# EAGLE library part XLATOR_4B_EP (library !GPLIB_ACTIVE)
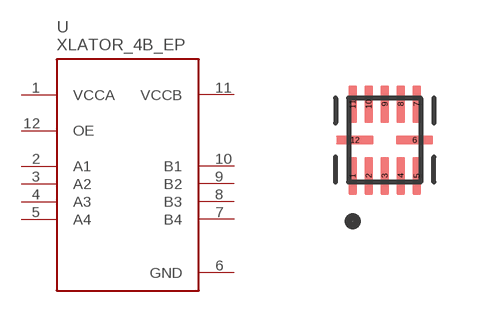
[diagram p109: symbol with the pads of QFN-12(1.7X2); footprint QFN-12(1.7X2)]

Designator prefix U

## XLATOR_4B_EP_UM3204QT  [QFN-12(1.7X2)]
1  VCCA  pwr
2  A1
3  A2
4  A3
5  A4
6  GND  pwr
7  B4
8  B3
9  B2
10  B1
11  VCCB  pwr
12  OE  in

## Footprint QFN-12(1.7X2) (pad centres in mm)
smd 0.22 x 0.94: 1 -0.8,-0.895; 2 -0.4,-0.895; 3 0,-0.895; 4 0.4,-0.895; 5 0.8,-0.895; 7 0.8,0.895; 8 0.4,0.895; 9 0,0.895; 10 -0.4,0.895; 11 -0.8,0.895
smd 0.94 x 0.22: 6 0.745,0; 12 -0.745,0